# Altium footprint library Mirror_Footprints.PcbLib: 29 footprints (part 3 of 3)
Each footprint in its own frame and in the unit in brackets; x right, y up, seen from the top. Pads: shape width x height; smd on the part's side, far side on the other; paste and mask are expansions set on the pad; w line width, h text height; cw(c..) or ccw(c..) is an arc to the next point about the centre after c.
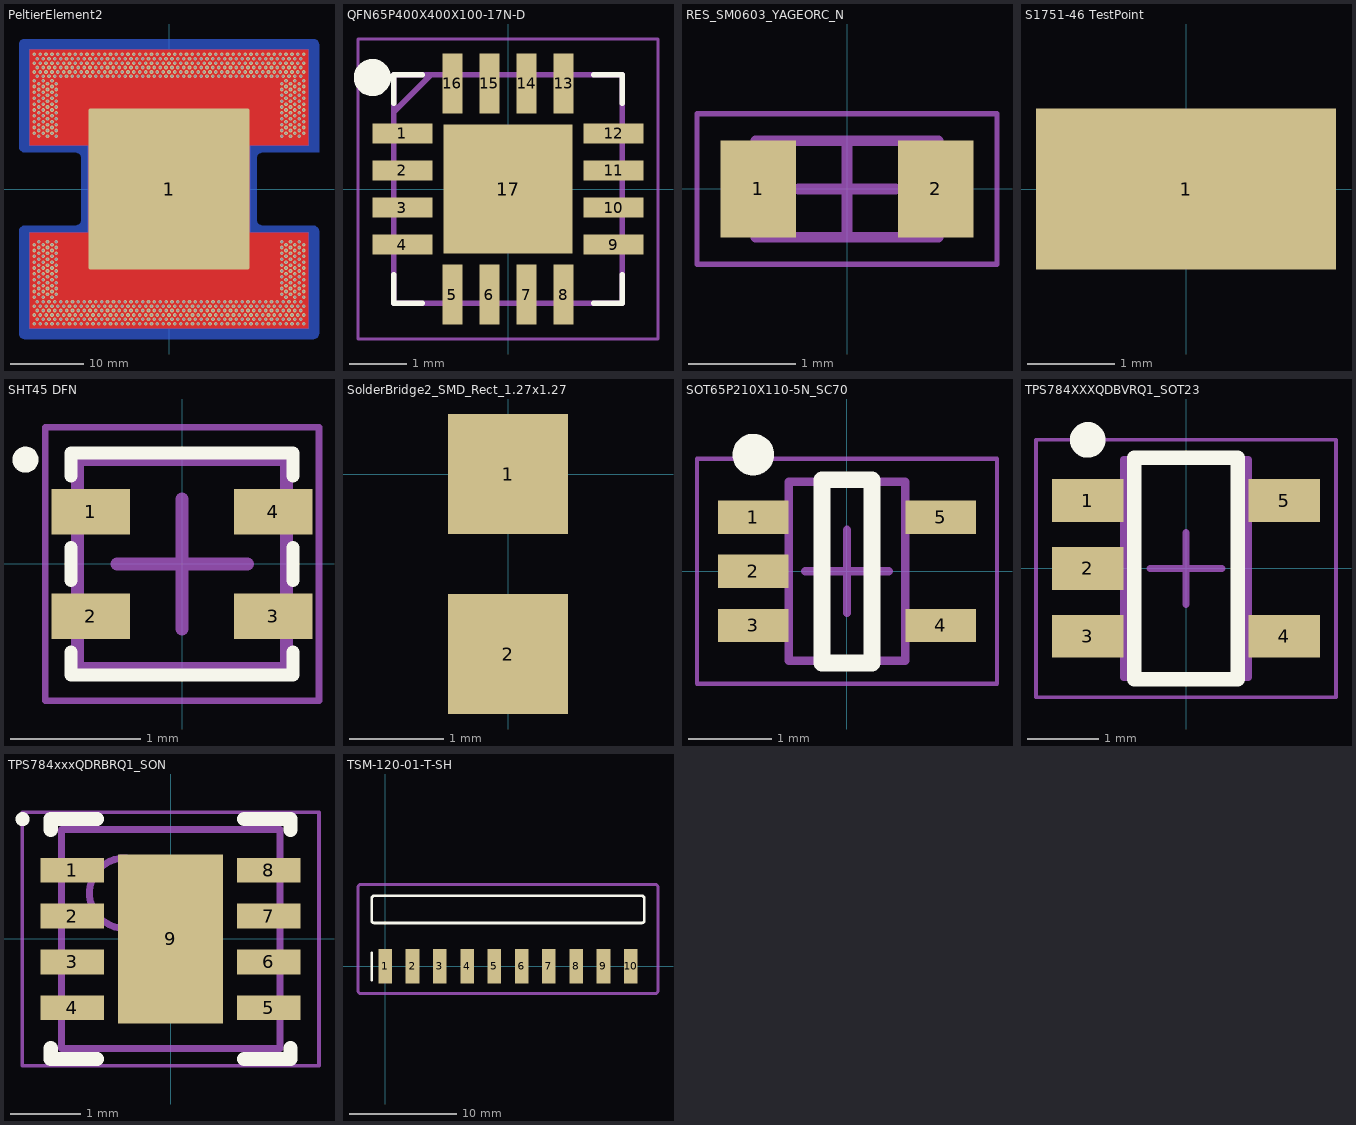
[diagram p2: the footprints below, top view; thin cyan lines are the x and y axes]

## PeltierElement2 [mm]
pads (2):
  rrect2% 22x22 smd paste-2539.97: 1(0,0)
  round 0.025 smd far side paste-2539.97: 1(0,0)
via -18.4,18.4 diameter 0.5 hole 0.3
via -17.6,18.4 diameter 0.5 hole 0.3
via -18,17.8 diameter 0.5 hole 0.3
via -16.8,18.4 diameter 0.5 hole 0.3
via -17.2,17.8 diameter 0.5 hole 0.3
via -16.4,17.8 diameter 0.5 hole 0.3
via -16,18.4 diameter 0.5 hole 0.3
via -15.2,18.4 diameter 0.5 hole 0.3
via -15.6,17.8 diameter 0.5 hole 0.3
via -14.4,18.4 diameter 0.5 hole 0.3
via -14.8,17.8 diameter 0.5 hole 0.3
via -14,17.8 diameter 0.5 hole 0.3
via -13.6,18.4 diameter 0.5 hole 0.3
via -12.8,18.4 diameter 0.5 hole 0.3
via -13.2,17.8 diameter 0.5 hole 0.3
via -12,18.4 diameter 0.5 hole 0.3
via -12.4,17.8 diameter 0.5 hole 0.3
via -11.6,17.8 diameter 0.5 hole 0.3
via -11.2,18.4 diameter 0.5 hole 0.3
via -10.4,18.4 diameter 0.5 hole 0.3
via -10.8,17.8 diameter 0.5 hole 0.3
via -9.6,18.4 diameter 0.5 hole 0.3
via -10,17.8 diameter 0.5 hole 0.3
via -9.2,17.8 diameter 0.5 hole 0.3
via -8.8,18.4 diameter 0.5 hole 0.3
via -8,18.4 diameter 0.5 hole 0.3
via -8.4,17.8 diameter 0.5 hole 0.3
via -7.2,18.4 diameter 0.5 hole 0.3
via -7.6,17.8 diameter 0.5 hole 0.3
via -6.8,17.8 diameter 0.5 hole 0.3
via -6.4,18.4 diameter 0.5 hole 0.3
via -5.6,18.4 diameter 0.5 hole 0.3
via -6,17.8 diameter 0.5 hole 0.3
via -4.8,18.4 diameter 0.5 hole 0.3
via -5.2,17.8 diameter 0.5 hole 0.3
via -4.4,17.8 diameter 0.5 hole 0.3
via -4,18.4 diameter 0.5 hole 0.3
via -3.2,18.4 diameter 0.5 hole 0.3
via -3.6,17.8 diameter 0.5 hole 0.3
via -2.4,18.4 diameter 0.5 hole 0.3
via -2.8,17.8 diameter 0.5 hole 0.3
via -2,17.8 diameter 0.5 hole 0.3
via -1.6,18.4 diameter 0.5 hole 0.3
via -0.8,18.4 diameter 0.5 hole 0.3
via -1.2,17.8 diameter 0.5 hole 0.3
via 0,18.4 diameter 0.5 hole 0.3
via -0.4,17.8 diameter 0.5 hole 0.3
via 0.4,17.8 diameter 0.5 hole 0.3
via 0.8,18.4 diameter 0.5 hole 0.3
via 1.6,18.4 diameter 0.5 hole 0.3
via 1.2,17.8 diameter 0.5 hole 0.3
via 2.4,18.4 diameter 0.5 hole 0.3
via 2,17.8 diameter 0.5 hole 0.3
via 2.8,17.8 diameter 0.5 hole 0.3
via 3.2,18.4 diameter 0.5 hole 0.3
via 4,18.4 diameter 0.5 hole 0.3
via 3.6,17.8 diameter 0.5 hole 0.3
via 4.8,18.4 diameter 0.5 hole 0.3
via 4.4,17.8 diameter 0.5 hole 0.3
via 5.2,17.8 diameter 0.5 hole 0.3
via 5.6,18.4 diameter 0.5 hole 0.3
via 6.4,18.4 diameter 0.5 hole 0.3
via 6,17.8 diameter 0.5 hole 0.3
via 7.2,18.4 diameter 0.5 hole 0.3
via 6.8,17.8 diameter 0.5 hole 0.3
via 7.6,17.8 diameter 0.5 hole 0.3
via 8,18.4 diameter 0.5 hole 0.3
via 8.8,18.4 diameter 0.5 hole 0.3
via 8.4,17.8 diameter 0.5 hole 0.3
via 9.6,18.4 diameter 0.5 hole 0.3
via 9.2,17.8 diameter 0.5 hole 0.3
via 10,17.8 diameter 0.5 hole 0.3
via 10.4,18.4 diameter 0.5 hole 0.3
via 11.2,18.4 diameter 0.5 hole 0.3
via 10.8,17.8 diameter 0.5 hole 0.3
via 12,18.4 diameter 0.5 hole 0.3
via 11.6,17.8 diameter 0.5 hole 0.3
via 12.4,17.8 diameter 0.5 hole 0.3
via 12.8,18.4 diameter 0.5 hole 0.3
via 13.6,18.4 diameter 0.5 hole 0.3
via 13.2,17.8 diameter 0.5 hole 0.3
via 14.4,18.4 diameter 0.5 hole 0.3
via 14,17.8 diameter 0.5 hole 0.3
via 14.8,17.8 diameter 0.5 hole 0.3
via 15.2,18.4 diameter 0.5 hole 0.3
via 16,18.4 diameter 0.5 hole 0.3
via 15.6,17.8 diameter 0.5 hole 0.3
via 16.8,18.4 diameter 0.5 hole 0.3
via 16.4,17.8 diameter 0.5 hole 0.3
via 17.2,17.8 diameter 0.5 hole 0.3
via 17.6,18.4 diameter 0.5 hole 0.3
via 18.4,18.4 diameter 0.5 hole 0.3
via 18,17.8 diameter 0.5 hole 0.3
via -18.4,17.2 diameter 0.5 hole 0.3
via -17.6,17.2 diameter 0.5 hole 0.3
via -18,16.6 diameter 0.5 hole 0.3
via -16.8,17.2 diameter 0.5 hole 0.3
via -17.2,16.6 diameter 0.5 hole 0.3
via -16.4,16.6 diameter 0.5 hole 0.3
via -16,17.2 diameter 0.5 hole 0.3
via -15.2,17.2 diameter 0.5 hole 0.3
via -15.6,16.6 diameter 0.5 hole 0.3
via -14.4,17.2 diameter 0.5 hole 0.3
via -14.8,16.6 diameter 0.5 hole 0.3
via -14,16.6 diameter 0.5 hole 0.3
via -13.6,17.2 diameter 0.5 hole 0.3
via -12.8,17.2 diameter 0.5 hole 0.3
via -13.2,16.6 diameter 0.5 hole 0.3
via -12,17.2 diameter 0.5 hole 0.3
via -12.4,16.6 diameter 0.5 hole 0.3
via -11.6,16.6 diameter 0.5 hole 0.3
via -11.2,17.2 diameter 0.5 hole 0.3
via -10.4,17.2 diameter 0.5 hole 0.3
via -10.8,16.6 diameter 0.5 hole 0.3
via -9.6,17.2 diameter 0.5 hole 0.3
via -10,16.6 diameter 0.5 hole 0.3
via -9.2,16.6 diameter 0.5 hole 0.3
via -8.8,17.2 diameter 0.5 hole 0.3
via -8,17.2 diameter 0.5 hole 0.3
via -8.4,16.6 diameter 0.5 hole 0.3
via -7.2,17.2 diameter 0.5 hole 0.3
via -7.6,16.6 diameter 0.5 hole 0.3
via -6.8,16.6 diameter 0.5 hole 0.3
via -6.4,17.2 diameter 0.5 hole 0.3
via -5.6,17.2 diameter 0.5 hole 0.3
via -6,16.6 diameter 0.5 hole 0.3
via -4.8,17.2 diameter 0.5 hole 0.3
via -5.2,16.6 diameter 0.5 hole 0.3
via -4.4,16.6 diameter 0.5 hole 0.3
via -4,17.2 diameter 0.5 hole 0.3
via -3.2,17.2 diameter 0.5 hole 0.3
via -3.6,16.6 diameter 0.5 hole 0.3
via -2.4,17.2 diameter 0.5 hole 0.3
via -2.8,16.6 diameter 0.5 hole 0.3
via -2,16.6 diameter 0.5 hole 0.3
via -1.6,17.2 diameter 0.5 hole 0.3
via -0.8,17.2 diameter 0.5 hole 0.3
via -1.2,16.6 diameter 0.5 hole 0.3
via 0,17.2 diameter 0.5 hole 0.3
via -0.4,16.6 diameter 0.5 hole 0.3
via 0.4,16.6 diameter 0.5 hole 0.3
via 0.8,17.2 diameter 0.5 hole 0.3
via 1.6,17.2 diameter 0.5 hole 0.3
via 1.2,16.6 diameter 0.5 hole 0.3
via 2.4,17.2 diameter 0.5 hole 0.3
via 2,16.6 diameter 0.5 hole 0.3
via 2.8,16.6 diameter 0.5 hole 0.3
via 3.2,17.2 diameter 0.5 hole 0.3
via 4,17.2 diameter 0.5 hole 0.3
via 3.6,16.6 diameter 0.5 hole 0.3
via 4.8,17.2 diameter 0.5 hole 0.3
via 4.4,16.6 diameter 0.5 hole 0.3
via 5.2,16.6 diameter 0.5 hole 0.3
via 5.6,17.2 diameter 0.5 hole 0.3
via 6.4,17.2 diameter 0.5 hole 0.3
via 6,16.6 diameter 0.5 hole 0.3
via 7.2,17.2 diameter 0.5 hole 0.3
via 6.8,16.6 diameter 0.5 hole 0.3
via 7.6,16.6 diameter 0.5 hole 0.3
via 8,17.2 diameter 0.5 hole 0.3
via 8.8,17.2 diameter 0.5 hole 0.3
via 8.4,16.6 diameter 0.5 hole 0.3
via 9.6,17.2 diameter 0.5 hole 0.3
via 9.2,16.6 diameter 0.5 hole 0.3
via 10,16.6 diameter 0.5 hole 0.3
via 10.4,17.2 diameter 0.5 hole 0.3
via 11.2,17.2 diameter 0.5 hole 0.3
via 10.8,16.6 diameter 0.5 hole 0.3
via 12,17.2 diameter 0.5 hole 0.3
via 11.6,16.6 diameter 0.5 hole 0.3
via 12.4,16.6 diameter 0.5 hole 0.3
via 12.8,17.2 diameter 0.5 hole 0.3
via 13.6,17.2 diameter 0.5 hole 0.3
via 13.2,16.6 diameter 0.5 hole 0.3
via 14.4,17.2 diameter 0.5 hole 0.3
via 14,16.6 diameter 0.5 hole 0.3
via 14.8,16.6 diameter 0.5 hole 0.3
via 15.2,17.2 diameter 0.5 hole 0.3
via 16,17.2 diameter 0.5 hole 0.3
via 15.6,16.6 diameter 0.5 hole 0.3
via 16.8,17.2 diameter 0.5 hole 0.3
via 16.4,16.6 diameter 0.5 hole 0.3
via 17.2,16.6 diameter 0.5 hole 0.3
via 17.6,17.2 diameter 0.5 hole 0.3
via 18.4,17.2 diameter 0.5 hole 0.3
via 18,16.6 diameter 0.5 hole 0.3
via -18.4,16 diameter 0.5 hole 0.3
via -17.6,16 diameter 0.5 hole 0.3
via -18,15.4 diameter 0.5 hole 0.3
via -16.8,16 diameter 0.5 hole 0.3
via -17.2,15.4 diameter 0.5 hole 0.3
via -16.4,15.4 diameter 0.5 hole 0.3
via -16,16 diameter 0.5 hole 0.3
via -15.2,16 diameter 0.5 hole 0.3
via -15.6,15.4 diameter 0.5 hole 0.3
via -14.4,16 diameter 0.5 hole 0.3
via -14.8,15.4 diameter 0.5 hole 0.3
via -14,15.4 diameter 0.5 hole 0.3
via -13.6,16 diameter 0.5 hole 0.3
via -12.8,16 diameter 0.5 hole 0.3
via -13.2,15.4 diameter 0.5 hole 0.3
via -12,16 diameter 0.5 hole 0.3
via -12.4,15.4 diameter 0.5 hole 0.3
via -11.6,15.4 diameter 0.5 hole 0.3
via -11.2,16 diameter 0.5 hole 0.3
via -10.4,16 diameter 0.5 hole 0.3
via -10.8,15.4 diameter 0.5 hole 0.3
via -9.6,16 diameter 0.5 hole 0.3
via -10,15.4 diameter 0.5 hole 0.3
via -9.2,15.4 diameter 0.5 hole 0.3
via -8.8,16 diameter 0.5 hole 0.3
via -8,16 diameter 0.5 hole 0.3
via -8.4,15.4 diameter 0.5 hole 0.3
via -7.2,16 diameter 0.5 hole 0.3
via -7.6,15.4 diameter 0.5 hole 0.3
via -6.8,15.4 diameter 0.5 hole 0.3
via -6.4,16 diameter 0.5 hole 0.3
via -5.6,16 diameter 0.5 hole 0.3
via -6,15.4 diameter 0.5 hole 0.3
via -4.8,16 diameter 0.5 hole 0.3
via -5.2,15.4 diameter 0.5 hole 0.3
via -4.4,15.4 diameter 0.5 hole 0.3
via -4,16 diameter 0.5 hole 0.3
via -3.2,16 diameter 0.5 hole 0.3
via -3.6,15.4 diameter 0.5 hole 0.3
via -2.4,16 diameter 0.5 hole 0.3
via -2.8,15.4 diameter 0.5 hole 0.3
via -2,15.4 diameter 0.5 hole 0.3
via -1.6,16 diameter 0.5 hole 0.3
via -0.8,16 diameter 0.5 hole 0.3
via -1.2,15.4 diameter 0.5 hole 0.3
via 0,16 diameter 0.5 hole 0.3
via -0.4,15.4 diameter 0.5 hole 0.3
via 0.4,15.4 diameter 0.5 hole 0.3
via 0.8,16 diameter 0.5 hole 0.3
via 1.6,16 diameter 0.5 hole 0.3
via 1.2,15.4 diameter 0.5 hole 0.3
via 2.4,16 diameter 0.5 hole 0.3
via 2,15.4 diameter 0.5 hole 0.3
via 2.8,15.4 diameter 0.5 hole 0.3
via 3.2,16 diameter 0.5 hole 0.3
via 4,16 diameter 0.5 hole 0.3
via 3.6,15.4 diameter 0.5 hole 0.3
via 4.8,16 diameter 0.5 hole 0.3
via 4.4,15.4 diameter 0.5 hole 0.3
via 5.2,15.4 diameter 0.5 hole 0.3
via 5.6,16 diameter 0.5 hole 0.3
via 6.4,16 diameter 0.5 hole 0.3
via 6,15.4 diameter 0.5 hole 0.3
via 7.2,16 diameter 0.5 hole 0.3
via 6.8,15.4 diameter 0.5 hole 0.3
via 7.6,15.4 diameter 0.5 hole 0.3
via 8,16 diameter 0.5 hole 0.3
via 8.8,16 diameter 0.5 hole 0.3
via 8.4,15.4 diameter 0.5 hole 0.3
via 9.6,16 diameter 0.5 hole 0.3
via 9.2,15.4 diameter 0.5 hole 0.3
via 10,15.4 diameter 0.5 hole 0.3
via 10.4,16 diameter 0.5 hole 0.3
via 11.2,16 diameter 0.5 hole 0.3
via 10.8,15.4 diameter 0.5 hole 0.3
via 12,16 diameter 0.5 hole 0.3
via 11.6,15.4 diameter 0.5 hole 0.3
via 12.4,15.4 diameter 0.5 hole 0.3
via 12.8,16 diameter 0.5 hole 0.3
via 13.6,16 diameter 0.5 hole 0.3
via 13.2,15.4 diameter 0.5 hole 0.3
via 14.4,16 diameter 0.5 hole 0.3
via 14,15.4 diameter 0.5 hole 0.3
via 14.8,15.4 diameter 0.5 hole 0.3
via 15.2,16 diameter 0.5 hole 0.3
via 16,16 diameter 0.5 hole 0.3
via 15.6,15.4 diameter 0.5 hole 0.3
via 16.8,16 diameter 0.5 hole 0.3
via 16.4,15.4 diameter 0.5 hole 0.3
via 17.2,15.4 diameter 0.5 hole 0.3
via 17.6,16 diameter 0.5 hole 0.3
via 18.4,16 diameter 0.5 hole 0.3
via 18,15.4 diameter 0.5 hole 0.3
via 18.406,-18.412 diameter 0.5 hole 0.3
via 17.606,-18.412 diameter 0.5 hole 0.3
via 18.006,-17.812 diameter 0.5 hole 0.3
via 16.806,-18.412 diameter 0.5 hole 0.3
via 17.206,-17.812 diameter 0.5 hole 0.3
via 16.406,-17.812 diameter 0.5 hole 0.3
via 16.006,-18.412 diameter 0.5 hole 0.3
via 15.206,-18.412 diameter 0.5 hole 0.3
via 15.606,-17.812 diameter 0.5 hole 0.3
via 14.406,-18.412 diameter 0.5 hole 0.3
via 14.806,-17.812 diameter 0.5 hole 0.3
via 14.006,-17.812 diameter 0.5 hole 0.3
via 13.606,-18.412 diameter 0.5 hole 0.3
via 12.806,-18.412 diameter 0.5 hole 0.3
via 13.206,-17.812 diameter 0.5 hole 0.3
via 12.006,-18.412 diameter 0.5 hole 0.3
via 12.406,-17.812 diameter 0.5 hole 0.3
via 11.606,-17.812 diameter 0.5 hole 0.3
via 11.206,-18.412 diameter 0.5 hole 0.3
via 10.406,-18.412 diameter 0.5 hole 0.3
via 10.806,-17.812 diameter 0.5 hole 0.3
via 9.606,-18.412 diameter 0.5 hole 0.3
via 10.006,-17.812 diameter 0.5 hole 0.3
via 9.206,-17.812 diameter 0.5 hole 0.3
via 8.806,-18.412 diameter 0.5 hole 0.3
via 8.006,-18.412 diameter 0.5 hole 0.3
via 8.406,-17.812 diameter 0.5 hole 0.3
via 7.206,-18.412 diameter 0.5 hole 0.3
via 7.606,-17.812 diameter 0.5 hole 0.3
via 6.806,-17.812 diameter 0.5 hole 0.3
via 6.406,-18.412 diameter 0.5 hole 0.3
via 5.606,-18.412 diameter 0.5 hole 0.3
via 6.006,-17.812 diameter 0.5 hole 0.3
via 4.806,-18.412 diameter 0.5 hole 0.3
via 5.206,-17.812 diameter 0.5 hole 0.3
via 4.406,-17.812 diameter 0.5 hole 0.3
via 4.006,-18.412 diameter 0.5 hole 0.3
via 3.206,-18.412 diameter 0.5 hole 0.3
via 3.606,-17.812 diameter 0.5 hole 0.3
via 2.406,-18.412 diameter 0.5 hole 0.3
via 2.806,-17.812 diameter 0.5 hole 0.3
via 2.006,-17.812 diameter 0.5 hole 0.3
via 1.606,-18.412 diameter 0.5 hole 0.3
via 0.806,-18.412 diameter 0.5 hole 0.3
via 1.206,-17.812 diameter 0.5 hole 0.3
via 0.006,-18.412 diameter 0.5 hole 0.3
via 0.406,-17.812 diameter 0.5 hole 0.3
via -0.394,-17.812 diameter 0.5 hole 0.3
via -0.794,-18.412 diameter 0.5 hole 0.3
via -1.594,-18.412 diameter 0.5 hole 0.3
via -1.194,-17.812 diameter 0.5 hole 0.3
via -2.394,-18.412 diameter 0.5 hole 0.3
via -1.994,-17.812 diameter 0.5 hole 0.3
via -2.794,-17.812 diameter 0.5 hole 0.3
via -3.194,-18.412 diameter 0.5 hole 0.3
via -3.994,-18.412 diameter 0.5 hole 0.3
via -3.594,-17.812 diameter 0.5 hole 0.3
via -4.794,-18.412 diameter 0.5 hole 0.3
via -4.394,-17.812 diameter 0.5 hole 0.3
via -5.194,-17.812 diameter 0.5 hole 0.3
via -5.594,-18.412 diameter 0.5 hole 0.3
via -6.394,-18.412 diameter 0.5 hole 0.3
via -5.994,-17.812 diameter 0.5 hole 0.3
via -7.194,-18.412 diameter 0.5 hole 0.3
via -6.794,-17.812 diameter 0.5 hole 0.3
via -7.594,-17.812 diameter 0.5 hole 0.3
via -7.994,-18.412 diameter 0.5 hole 0.3
via -8.794,-18.412 diameter 0.5 hole 0.3
via -8.394,-17.812 diameter 0.5 hole 0.3
via -9.594,-18.412 diameter 0.5 hole 0.3
via -9.194,-17.812 diameter 0.5 hole 0.3
via -9.994,-17.812 diameter 0.5 hole 0.3
via -10.394,-18.412 diameter 0.5 hole 0.3
via -11.194,-18.412 diameter 0.5 hole 0.3
via -10.794,-17.812 diameter 0.5 hole 0.3
via -11.994,-18.412 diameter 0.5 hole 0.3
via -11.594,-17.812 diameter 0.5 hole 0.3
via -12.394,-17.812 diameter 0.5 hole 0.3
via -12.794,-18.412 diameter 0.5 hole 0.3
via -13.594,-18.412 diameter 0.5 hole 0.3
via -13.194,-17.812 diameter 0.5 hole 0.3
via -14.394,-18.412 diameter 0.5 hole 0.3
via -13.994,-17.812 diameter 0.5 hole 0.3
via -14.794,-17.812 diameter 0.5 hole 0.3
via -15.194,-18.412 diameter 0.5 hole 0.3
via -15.994,-18.412 diameter 0.5 hole 0.3
via -15.594,-17.812 diameter 0.5 hole 0.3
via -16.794,-18.412 diameter 0.5 hole 0.3
via -16.394,-17.812 diameter 0.5 hole 0.3
via -17.194,-17.812 diameter 0.5 hole 0.3
via -17.594,-18.412 diameter 0.5 hole 0.3
via -18.394,-18.412 diameter 0.5 hole 0.3
via -17.994,-17.812 diameter 0.5 hole 0.3
via 18.406,-17.212 diameter 0.5 hole 0.3
via 17.606,-17.212 diameter 0.5 hole 0.3
via 18.006,-16.612 diameter 0.5 hole 0.3
via 16.806,-17.212 diameter 0.5 hole 0.3
via 17.206,-16.612 diameter 0.5 hole 0.3
via 16.406,-16.612 diameter 0.5 hole 0.3
via 16.006,-17.212 diameter 0.5 hole 0.3
via 15.206,-17.212 diameter 0.5 hole 0.3
via 15.606,-16.612 diameter 0.5 hole 0.3
via 14.406,-17.212 diameter 0.5 hole 0.3
via 14.806,-16.612 diameter 0.5 hole 0.3
via 14.006,-16.612 diameter 0.5 hole 0.3
via 13.606,-17.212 diameter 0.5 hole 0.3
via 12.806,-17.212 diameter 0.5 hole 0.3
via 13.206,-16.612 diameter 0.5 hole 0.3
via 12.006,-17.212 diameter 0.5 hole 0.3
via 12.406,-16.612 diameter 0.5 hole 0.3
via 11.606,-16.612 diameter 0.5 hole 0.3
via 11.206,-17.212 diameter 0.5 hole 0.3
via 10.406,-17.212 diameter 0.5 hole 0.3
via 10.806,-16.612 diameter 0.5 hole 0.3
via 9.606,-17.212 diameter 0.5 hole 0.3
via 10.006,-16.612 diameter 0.5 hole 0.3
via 9.206,-16.612 diameter 0.5 hole 0.3
via 8.806,-17.212 diameter 0.5 hole 0.3
via 8.006,-17.212 diameter 0.5 hole 0.3
via 8.406,-16.612 diameter 0.5 hole 0.3
via 7.206,-17.212 diameter 0.5 hole 0.3
via 7.606,-16.612 diameter 0.5 hole 0.3
via 6.806,-16.612 diameter 0.5 hole 0.3
via 6.406,-17.212 diameter 0.5 hole 0.3
via 5.606,-17.212 diameter 0.5 hole 0.3
via 6.006,-16.612 diameter 0.5 hole 0.3
via 4.806,-17.212 diameter 0.5 hole 0.3
via 5.206,-16.612 diameter 0.5 hole 0.3
via 4.406,-16.612 diameter 0.5 hole 0.3
via 4.006,-17.212 diameter 0.5 hole 0.3
via 3.206,-17.212 diameter 0.5 hole 0.3
via 3.606,-16.612 diameter 0.5 hole 0.3
via 2.406,-17.212 diameter 0.5 hole 0.3
via 2.806,-16.612 diameter 0.5 hole 0.3
via 2.006,-16.612 diameter 0.5 hole 0.3
via 1.606,-17.212 diameter 0.5 hole 0.3
via 0.806,-17.212 diameter 0.5 hole 0.3
via 1.206,-16.612 diameter 0.5 hole 0.3
via 0.006,-17.212 diameter 0.5 hole 0.3
via 0.406,-16.612 diameter 0.5 hole 0.3
via -0.394,-16.612 diameter 0.5 hole 0.3
via -0.794,-17.212 diameter 0.5 hole 0.3
via -1.594,-17.212 diameter 0.5 hole 0.3
via -1.194,-16.612 diameter 0.5 hole 0.3
via -2.394,-17.212 diameter 0.5 hole 0.3
via -1.994,-16.612 diameter 0.5 hole 0.3
via -2.794,-16.612 diameter 0.5 hole 0.3
via -3.194,-17.212 diameter 0.5 hole 0.3
via -3.994,-17.212 diameter 0.5 hole 0.3
via -3.594,-16.612 diameter 0.5 hole 0.3
via -4.794,-17.212 diameter 0.5 hole 0.3
via -4.394,-16.612 diameter 0.5 hole 0.3
via -5.194,-16.612 diameter 0.5 hole 0.3
via -5.594,-17.212 diameter 0.5 hole 0.3
via -6.394,-17.212 diameter 0.5 hole 0.3
via -5.994,-16.612 diameter 0.5 hole 0.3
via -7.194,-17.212 diameter 0.5 hole 0.3
via -6.794,-16.612 diameter 0.5 hole 0.3
via -7.594,-16.612 diameter 0.5 hole 0.3
via -7.994,-17.212 diameter 0.5 hole 0.3
via -8.794,-17.212 diameter 0.5 hole 0.3
via -8.394,-16.612 diameter 0.5 hole 0.3
via -9.594,-17.212 diameter 0.5 hole 0.3
via -9.194,-16.612 diameter 0.5 hole 0.3
via -9.994,-16.612 diameter 0.5 hole 0.3
via -10.394,-17.212 diameter 0.5 hole 0.3
via -11.194,-17.212 diameter 0.5 hole 0.3
via -10.794,-16.612 diameter 0.5 hole 0.3
via -11.994,-17.212 diameter 0.5 hole 0.3
via -11.594,-16.612 diameter 0.5 hole 0.3
via -12.394,-16.612 diameter 0.5 hole 0.3
via -12.794,-17.212 diameter 0.5 hole 0.3
via -13.594,-17.212 diameter 0.5 hole 0.3
via -13.194,-16.612 diameter 0.5 hole 0.3
via -14.394,-17.212 diameter 0.5 hole 0.3
via -13.994,-16.612 diameter 0.5 hole 0.3
via -14.794,-16.612 diameter 0.5 hole 0.3
via -15.194,-17.212 diameter 0.5 hole 0.3
via -15.994,-17.212 diameter 0.5 hole 0.3
via -15.594,-16.612 diameter 0.5 hole 0.3
via -16.794,-17.212 diameter 0.5 hole 0.3
via -16.394,-16.612 diameter 0.5 hole 0.3
via -17.194,-16.612 diameter 0.5 hole 0.3
via -17.594,-17.212 diameter 0.5 hole 0.3
via -18.394,-17.212 diameter 0.5 hole 0.3
via -17.994,-16.612 diameter 0.5 hole 0.3
via 18.406,-16.012 diameter 0.5 hole 0.3
via 17.606,-16.012 diameter 0.5 hole 0.3
via 18.006,-15.412 diameter 0.5 hole 0.3
via 16.806,-16.012 diameter 0.5 hole 0.3
via 17.206,-15.412 diameter 0.5 hole 0.3
via 16.406,-15.412 diameter 0.5 hole 0.3
via 16.006,-16.012 diameter 0.5 hole 0.3
via 15.206,-16.012 diameter 0.5 hole 0.3
via 15.606,-15.412 diameter 0.5 hole 0.3
via 14.406,-16.012 diameter 0.5 hole 0.3
via 14.806,-15.412 diameter 0.5 hole 0.3
via 14.006,-15.412 diameter 0.5 hole 0.3
via 13.606,-16.012 diameter 0.5 hole 0.3
via 12.806,-16.012 diameter 0.5 hole 0.3
via 13.206,-15.412 diameter 0.5 hole 0.3
via 12.006,-16.012 diameter 0.5 hole 0.3
via 12.406,-15.412 diameter 0.5 hole 0.3
via 11.606,-15.412 diameter 0.5 hole 0.3
via 11.206,-16.012 diameter 0.5 hole 0.3
via 10.406,-16.012 diameter 0.5 hole 0.3
via 10.806,-15.412 diameter 0.5 hole 0.3
via 9.606,-16.012 diameter 0.5 hole 0.3
via 10.006,-15.412 diameter 0.5 hole 0.3
via 9.206,-15.412 diameter 0.5 hole 0.3
via 8.806,-16.012 diameter 0.5 hole 0.3
via 8.006,-16.012 diameter 0.5 hole 0.3
via 8.406,-15.412 diameter 0.5 hole 0.3
via 7.206,-16.012 diameter 0.5 hole 0.3
via 7.606,-15.412 diameter 0.5 hole 0.3
via 6.806,-15.412 diameter 0.5 hole 0.3
via 6.406,-16.012 diameter 0.5 hole 0.3
via 5.606,-16.012 diameter 0.5 hole 0.3
via 6.006,-15.412 diameter 0.5 hole 0.3
via 4.806,-16.012 diameter 0.5 hole 0.3
via 5.206,-15.412 diameter 0.5 hole 0.3
via 4.406,-15.412 diameter 0.5 hole 0.3
via 4.006,-16.012 diameter 0.5 hole 0.3
via 3.206,-16.012 diameter 0.5 hole 0.3
via 3.606,-15.412 diameter 0.5 hole 0.3
via 2.406,-16.012 diameter 0.5 hole 0.3
via 2.806,-15.412 diameter 0.5 hole 0.3
via 2.006,-15.412 diameter 0.5 hole 0.3
via 1.606,-16.012 diameter 0.5 hole 0.3
via 0.806,-16.012 diameter 0.5 hole 0.3
via 1.206,-15.412 diameter 0.5 hole 0.3
via 0.006,-16.012 diameter 0.5 hole 0.3
via 0.406,-15.412 diameter 0.5 hole 0.3
via -0.394,-15.412 diameter 0.5 hole 0.3
via -0.794,-16.012 diameter 0.5 hole 0.3
via -1.594,-16.012 diameter 0.5 hole 0.3
via -1.194,-15.412 diameter 0.5 hole 0.3
via -2.394,-16.012 diameter 0.5 hole 0.3
via -1.994,-15.412 diameter 0.5 hole 0.3
via -2.794,-15.412 diameter 0.5 hole 0.3
via -3.194,-16.012 diameter 0.5 hole 0.3
via -3.994,-16.012 diameter 0.5 hole 0.3
via -3.594,-15.412 diameter 0.5 hole 0.3
via -4.794,-16.012 diameter 0.5 hole 0.3
via -4.394,-15.412 diameter 0.5 hole 0.3
via -5.194,-15.412 diameter 0.5 hole 0.3
via -5.594,-16.012 diameter 0.5 hole 0.3
via -6.394,-16.012 diameter 0.5 hole 0.3
via -5.994,-15.412 diameter 0.5 hole 0.3
via -7.194,-16.012 diameter 0.5 hole 0.3
via -6.794,-15.412 diameter 0.5 hole 0.3
via -7.594,-15.412 diameter 0.5 hole 0.3
via -7.994,-16.012 diameter 0.5 hole 0.3
via -8.794,-16.012 diameter 0.5 hole 0.3
via -8.394,-15.412 diameter 0.5 hole 0.3
via -9.594,-16.012 diameter 0.5 hole 0.3
via -9.194,-15.412 diameter 0.5 hole 0.3
via -9.994,-15.412 diameter 0.5 hole 0.3
via -10.394,-16.012 diameter 0.5 hole 0.3
via -11.194,-16.012 diameter 0.5 hole 0.3
via -10.794,-15.412 diameter 0.5 hole 0.3
via -11.994,-16.012 diameter 0.5 hole 0.3
via -11.594,-15.412 diameter 0.5 hole 0.3
via -12.394,-15.412 diameter 0.5 hole 0.3
via -12.794,-16.012 diameter 0.5 hole 0.3
via -13.594,-16.012 diameter 0.5 hole 0.3
via -13.194,-15.412 diameter 0.5 hole 0.3
via -14.394,-16.012 diameter 0.5 hole 0.3
via -13.994,-15.412 diameter 0.5 hole 0.3
via -14.794,-15.412 diameter 0.5 hole 0.3
via -15.194,-16.012 diameter 0.5 hole 0.3
via -15.994,-16.012 diameter 0.5 hole 0.3
via -15.594,-15.412 diameter 0.5 hole 0.3
via -16.794,-16.012 diameter 0.5 hole 0.3
via -16.394,-15.412 diameter 0.5 hole 0.3
via -17.194,-15.412 diameter 0.5 hole 0.3
via -17.594,-16.012 diameter 0.5 hole 0.3
via -18.394,-16.012 diameter 0.5 hole 0.3
via -17.994,-15.412 diameter 0.5 hole 0.3
via -15.4,14.4 diameter 0.5 hole 0.3
via -16,14.8 diameter 0.5 hole 0.3
via -16,14 diameter 0.5 hole 0.3
via -15.4,13.6 diameter 0.5 hole 0.3
via -15.4,12.8 diameter 0.5 hole 0.3
via -16,13.2 diameter 0.5 hole 0.3
via -15.4,12 diameter 0.5 hole 0.3
via -16,12.4 diameter 0.5 hole 0.3
via -16,11.6 diameter 0.5 hole 0.3
via -15.4,11.2 diameter 0.5 hole 0.3
via -15.4,10.4 diameter 0.5 hole 0.3
via -16,10.8 diameter 0.5 hole 0.3
via -15.4,9.6 diameter 0.5 hole 0.3
via -16,10 diameter 0.5 hole 0.3
via -16,9.2 diameter 0.5 hole 0.3
via -15.4,8.8 diameter 0.5 hole 0.3
via -15.4,8 diameter 0.5 hole 0.3
via -16,8.4 diameter 0.5 hole 0.3
via -15.4,7.2 diameter 0.5 hole 0.3
via -16,7.6 diameter 0.5 hole 0.3
via -15.4,-7.2 diameter 0.5 hole 0.3
via -16,-7.6 diameter 0.5 hole 0.3
via -15.4,-8 diameter 0.5 hole 0.3
via -15.4,-8.8 diameter 0.5 hole 0.3
via -16,-8.4 diameter 0.5 hole 0.3
via -15.4,-9.6 diameter 0.5 hole 0.3
via -16,-9.2 diameter 0.5 hole 0.3
via -16,-10 diameter 0.5 hole 0.3
via -15.4,-10.4 diameter 0.5 hole 0.3
via -15.4,-11.2 diameter 0.5 hole 0.3
via -16,-10.8 diameter 0.5 hole 0.3
via -15.4,-12 diameter 0.5 hole 0.3
via -16,-11.6 diameter 0.5 hole 0.3
via -16,-12.4 diameter 0.5 hole 0.3
via -15.4,-12.8 diameter 0.5 hole 0.3
via -15.4,-13.6 diameter 0.5 hole 0.3
via -16,-13.2 diameter 0.5 hole 0.3
via -15.4,-14.4 diameter 0.5 hole 0.3
via -16,-14 diameter 0.5 hole 0.3
via -16,-14.8 diameter 0.5 hole 0.3
via -16.6,14.4 diameter 0.5 hole 0.3
via -17.2,14.8 diameter 0.5 hole 0.3
via -17.2,14 diameter 0.5 hole 0.3
via -16.6,13.6 diameter 0.5 hole 0.3
via -16.6,12.8 diameter 0.5 hole 0.3
via -17.2,13.2 diameter 0.5 hole 0.3
via -16.6,12 diameter 0.5 hole 0.3
via -17.2,12.4 diameter 0.5 hole 0.3
via -17.2,11.6 diameter 0.5 hole 0.3
via -16.6,11.2 diameter 0.5 hole 0.3
via -16.6,10.4 diameter 0.5 hole 0.3
via -17.2,10.8 diameter 0.5 hole 0.3
via -16.6,9.6 diameter 0.5 hole 0.3
via -17.2,10 diameter 0.5 hole 0.3
via -17.2,9.2 diameter 0.5 hole 0.3
via -16.6,8.8 diameter 0.5 hole 0.3
via -16.6,8 diameter 0.5 hole 0.3
via -17.2,8.4 diameter 0.5 hole 0.3
via -16.6,7.2 diameter 0.5 hole 0.3
via -17.2,7.6 diameter 0.5 hole 0.3
via -16.6,-7.2 diameter 0.5 hole 0.3
via -17.2,-7.6 diameter 0.5 hole 0.3
via -16.6,-8 diameter 0.5 hole 0.3
via -16.6,-8.8 diameter 0.5 hole 0.3
via -17.2,-8.4 diameter 0.5 hole 0.3
via -16.6,-9.6 diameter 0.5 hole 0.3
via -17.2,-9.2 diameter 0.5 hole 0.3
via -17.2,-10 diameter 0.5 hole 0.3
via -16.6,-10.4 diameter 0.5 hole 0.3
via -16.6,-11.2 diameter 0.5 hole 0.3
via -17.2,-10.8 diameter 0.5 hole 0.3
via -16.6,-12 diameter 0.5 hole 0.3
via -17.2,-11.6 diameter 0.5 hole 0.3
via -17.2,-12.4 diameter 0.5 hole 0.3
via -16.6,-12.8 diameter 0.5 hole 0.3
via -16.6,-13.6 diameter 0.5 hole 0.3
via -17.2,-13.2 diameter 0.5 hole 0.3
via -16.6,-14.4 diameter 0.5 hole 0.3
via -17.2,-14 diameter 0.5 hole 0.3
via -17.2,-14.8 diameter 0.5 hole 0.3
via -17.8,14.4 diameter 0.5 hole 0.3
via -18.4,14.8 diameter 0.5 hole 0.3
via -18.4,14 diameter 0.5 hole 0.3
via -17.8,13.6 diameter 0.5 hole 0.3
via -17.8,12.8 diameter 0.5 hole 0.3
via -18.4,13.2 diameter 0.5 hole 0.3
via -17.8,12 diameter 0.5 hole 0.3
via -18.4,12.4 diameter 0.5 hole 0.3
via -18.4,11.6 diameter 0.5 hole 0.3
via -17.8,11.2 diameter 0.5 hole 0.3
via -17.8,10.4 diameter 0.5 hole 0.3
via -18.4,10.8 diameter 0.5 hole 0.3
via -17.8,9.6 diameter 0.5 hole 0.3
via -18.4,10 diameter 0.5 hole 0.3
via -18.4,9.2 diameter 0.5 hole 0.3
via -17.8,8.8 diameter 0.5 hole 0.3
via -17.8,8 diameter 0.5 hole 0.3
via -18.4,8.4 diameter 0.5 hole 0.3
via -17.8,7.2 diameter 0.5 hole 0.3
via -18.4,7.6 diameter 0.5 hole 0.3
via -17.8,-7.2 diameter 0.5 hole 0.3
via -18.4,-7.6 diameter 0.5 hole 0.3
via -17.8,-8 diameter 0.5 hole 0.3
via -17.8,-8.8 diameter 0.5 hole 0.3
via -18.4,-8.4 diameter 0.5 hole 0.3
via -17.8,-9.6 diameter 0.5 hole 0.3
via -18.4,-9.2 diameter 0.5 hole 0.3
via -18.4,-10 diameter 0.5 hole 0.3
via -17.8,-10.4 diameter 0.5 hole 0.3
via -17.8,-11.2 diameter 0.5 hole 0.3
via -18.4,-10.8 diameter 0.5 hole 0.3
via -17.8,-12 diameter 0.5 hole 0.3
via -18.4,-11.6 diameter 0.5 hole 0.3
via -18.4,-12.4 diameter 0.5 hole 0.3
via -17.8,-12.8 diameter 0.5 hole 0.3
via -17.8,-13.6 diameter 0.5 hole 0.3
via -18.4,-13.2 diameter 0.5 hole 0.3
via -17.8,-14.4 diameter 0.5 hole 0.3
via -18.4,-14 diameter 0.5 hole 0.3
via -18.4,-14.8 diameter 0.5 hole 0.3
via 15.4,-14.4 diameter 0.5 hole 0.3
via 16,-14.8 diameter 0.5 hole 0.3
via 16,-14 diameter 0.5 hole 0.3
via 15.4,-13.6 diameter 0.5 hole 0.3
via 15.4,-12.8 diameter 0.5 hole 0.3
via 16,-13.2 diameter 0.5 hole 0.3
via 15.4,-12 diameter 0.5 hole 0.3
via 16,-12.4 diameter 0.5 hole 0.3
via 16,-11.6 diameter 0.5 hole 0.3
via 15.4,-11.2 diameter 0.5 hole 0.3
via 15.4,-10.4 diameter 0.5 hole 0.3
via 16,-10.8 diameter 0.5 hole 0.3
via 15.4,-9.6 diameter 0.5 hole 0.3
via 16,-10 diameter 0.5 hole 0.3
via 16,-9.2 diameter 0.5 hole 0.3
via 15.4,-8.8 diameter 0.5 hole 0.3
via 15.4,-8 diameter 0.5 hole 0.3
via 16,-8.4 diameter 0.5 hole 0.3
via 15.4,-7.2 diameter 0.5 hole 0.3
via 16,-7.6 diameter 0.5 hole 0.3
via 15.4,7.2 diameter 0.5 hole 0.3
via 16,7.6 diameter 0.5 hole 0.3
via 15.4,8 diameter 0.5 hole 0.3
via 15.4,8.8 diameter 0.5 hole 0.3
via 16,8.4 diameter 0.5 hole 0.3
via 15.4,9.6 diameter 0.5 hole 0.3
via 16,9.2 diameter 0.5 hole 0.3
via 16,10 diameter 0.5 hole 0.3
via 15.4,10.4 diameter 0.5 hole 0.3
via 15.4,11.2 diameter 0.5 hole 0.3
via 16,10.8 diameter 0.5 hole 0.3
via 15.4,12 diameter 0.5 hole 0.3
via 16,11.6 diameter 0.5 hole 0.3
via 16,12.4 diameter 0.5 hole 0.3
via 15.4,12.8 diameter 0.5 hole 0.3
via 15.4,13.6 diameter 0.5 hole 0.3
via 16,13.2 diameter 0.5 hole 0.3
via 15.4,14.4 diameter 0.5 hole 0.3
via 16,14 diameter 0.5 hole 0.3
via 16,14.8 diameter 0.5 hole 0.3
via 16.6,-14.4 diameter 0.5 hole 0.3
via 17.2,-14.8 diameter 0.5 hole 0.3
via 17.2,-14 diameter 0.5 hole 0.3
via 16.6,-13.6 diameter 0.5 hole 0.3
via 16.6,-12.8 diameter 0.5 hole 0.3
via 17.2,-13.2 diameter 0.5 hole 0.3
via 16.6,-12 diameter 0.5 hole 0.3
via 17.2,-12.4 diameter 0.5 hole 0.3
via 17.2,-11.6 diameter 0.5 hole 0.3
via 16.6,-11.2 diameter 0.5 hole 0.3
via 16.6,-10.4 diameter 0.5 hole 0.3
via 17.2,-10.8 diameter 0.5 hole 0.3
via 16.6,-9.6 diameter 0.5 hole 0.3
via 17.2,-10 diameter 0.5 hole 0.3
via 17.2,-9.2 diameter 0.5 hole 0.3
via 16.6,-8.8 diameter 0.5 hole 0.3
via 16.6,-8 diameter 0.5 hole 0.3
via 17.2,-8.4 diameter 0.5 hole 0.3
via 16.6,-7.2 diameter 0.5 hole 0.3
via 17.2,-7.6 diameter 0.5 hole 0.3
via 16.6,7.2 diameter 0.5 hole 0.3
via 17.2,7.6 diameter 0.5 hole 0.3
via 16.6,8 diameter 0.5 hole 0.3
via 16.6,8.8 diameter 0.5 hole 0.3
via 17.2,8.4 diameter 0.5 hole 0.3
via 16.6,9.6 diameter 0.5 hole 0.3
via 17.2,9.2 diameter 0.5 hole 0.3
via 17.2,10 diameter 0.5 hole 0.3
via 16.6,10.4 diameter 0.5 hole 0.3
via 16.6,11.2 diameter 0.5 hole 0.3
via 17.2,10.8 diameter 0.5 hole 0.3
via 16.6,12 diameter 0.5 hole 0.3
via 17.2,11.6 diameter 0.5 hole 0.3
via 17.2,12.4 diameter 0.5 hole 0.3
via 16.6,12.8 diameter 0.5 hole 0.3
via 16.6,13.6 diameter 0.5 hole 0.3
via 17.2,13.2 diameter 0.5 hole 0.3
via 16.6,14.4 diameter 0.5 hole 0.3
via 17.2,14 diameter 0.5 hole 0.3
via 17.2,14.8 diameter 0.5 hole 0.3
via 17.8,-14.4 diameter 0.5 hole 0.3
via 18.4,-14.8 diameter 0.5 hole 0.3
via 18.4,-14 diameter 0.5 hole 0.3
via 17.8,-13.6 diameter 0.5 hole 0.3
via 17.8,-12.8 diameter 0.5 hole 0.3
via 18.4,-13.2 diameter 0.5 hole 0.3
via 17.8,-12 diameter 0.5 hole 0.3
via 18.4,-12.4 diameter 0.5 hole 0.3
via 18.4,-11.6 diameter 0.5 hole 0.3
via 17.8,-11.2 diameter 0.5 hole 0.3
via 17.8,-10.4 diameter 0.5 hole 0.3
via 18.4,-10.8 diameter 0.5 hole 0.3
via 17.8,-9.6 diameter 0.5 hole 0.3
via 18.4,-10 diameter 0.5 hole 0.3
via 18.4,-9.2 diameter 0.5 hole 0.3
via 17.8,-8.8 diameter 0.5 hole 0.3
via 17.8,-8 diameter 0.5 hole 0.3
via 18.4,-8.4 diameter 0.5 hole 0.3
via 17.8,-7.2 diameter 0.5 hole 0.3
via 18.4,-7.6 diameter 0.5 hole 0.3
via 17.8,7.2 diameter 0.5 hole 0.3
via 18.4,7.6 diameter 0.5 hole 0.3
via 17.8,8 diameter 0.5 hole 0.3
via 17.8,8.8 diameter 0.5 hole 0.3
via 18.4,8.4 diameter 0.5 hole 0.3
via 17.8,9.6 diameter 0.5 hole 0.3
via 18.4,9.2 diameter 0.5 hole 0.3
via 18.4,10 diameter 0.5 hole 0.3
via 17.8,10.4 diameter 0.5 hole 0.3
via 17.8,11.2 diameter 0.5 hole 0.3
via 18.4,10.8 diameter 0.5 hole 0.3
via 17.8,12 diameter 0.5 hole 0.3
via 18.4,11.6 diameter 0.5 hole 0.3
via 18.4,12.4 diameter 0.5 hole 0.3
via 17.8,12.8 diameter 0.5 hole 0.3
via 17.8,13.6 diameter 0.5 hole 0.3
via 18.4,13.2 diameter 0.5 hole 0.3
via 17.8,14.4 diameter 0.5 hole 0.3
via 18.4,14 diameter 0.5 hole 0.3
via 18.4,14.8 diameter 0.5 hole 0.3
Top Layer:
  region: -19,19 -19,6 -11,6 -11,-6 -19,-6 -19,-19 19,-19 19,-6 11,-6 11,6 19,6 19,19
Bottom Layer:
  region: 166 vertices and 0 holes, not listed, extent -20.5,-20.5 20.5,20.5
Top Courtyard:
  lines w0.254: -19,-19 -19,-6 -11,-6 -11,6 -19,6 -19,19 19,19 19,6 11,6 11,-6 19,-6 19,-19 -19,-19
3D body: height 0.25, standoff 0, extent -20,20 20,20
3D body: height 8, standoff 0, extent -20,-20 20,20

## QFN65P400X400X100-17N-D [mm]
pads (17):
  rect 1.05x0.35 smd: 1(-1.85,0.975) 2(-1.85,0.325) 3(-1.85,-0.325) 4(-1.85,-0.975) 9(1.85,-0.975) 10(1.85,-0.325) 11(1.85,0.325) 12(1.85,0.975)
  rect 0.35x1.05 smd: 5(-0.975,-1.85) 6(-0.325,-1.85) 7(0.325,-1.85) 8(0.975,-1.85) 13(0.975,1.85) 14(0.325,1.85) 15(-0.325,1.85) 16(-0.975,1.85)
  rect 2.26x2.26 smd: 17(0,0)
Top Overlay:
  circle w0.325: c-2.375,1.95 r0.162
  lines w0.1: -2,-1.5 -2,-2 -1.5,-2 ; -2,1.5 -2,2 -1.5,2 ; 1.5,-2 2,-2 2,-1.5 ; 1.5,2 2,2 2,1.5
Mechanical 15:
  lines w0.1: -2,1.35 -1.35,2 ; -2,-2 -2,2 2,2 2,-2 -2,-2
Mechanical 20:
  lines w0.05: -2.625,-2.625 -2.625,2.625 2.625,2.625 2.625,-2.625 -2.625,-2.625
3D body "PCA9546ARGVR.stp": height 1, standoff 0, extent -1.988,-2.062 2.012,1.938

## RES_SM0603_YAGEORC_N [mm] "Resistor, Yageo RC_L, SM0603, IPC Medium Density"
height 0.55
pads (2):
  rect 0.7x0.9 smd: 1(-0.827,0) 2(0.827,0)
Mechanical 13:
  lines w0.1: -0.85,-0.45 0.85,-0.45 0.85,0.45 -0.85,0.45 -0.85,-0.45
Mechanical 15:
  lines w0.05: -1.397,-0.7 1.397,-0.7 1.397,0.7 -1.397,0.7 -1.397,-0.7
  lines w0.1: -0.45,0 0.45,0 ; 0,-0.45 0,0.45
3D body: height 0.55, standoff 0, extent 0.6,-0.45 0.85,0.45
3D body: height 0.55, standoff 0, extent -0.85,-0.45 -0.6,0.45
3D body: height 0.55, standoff 0, extent -0.6,-0.45 0.6,0.45

## S1751-46 TestPoint [mm]
pads (1):
  rect 3.45x1.85 smd: 1(0,0)

## SHT45 DFN [mm] "DFN, 4-Leads, Body 1.50x1.50mm, Pitch 0.80mm, IPC Medium Density"
height 0.8
pads (4):
  rect 0.6x0.35 smd: 1(-0.7,0.4) 2(-0.7,-0.4) 3(0.7,-0.4) 4(0.7,0.4)
Top Overlay:
  circle w0.1: c-1.2,0.8 r0.05
  lines w0.1: -0.85,-0.675 -0.85,-0.85 0.85,-0.85 0.85,-0.675 ; -0.85,-0.125 -0.85,0.125 ; -0.85,0.675 -0.85,0.85 0.85,0.85 0.85,0.675 ; 0.85,-0.125 0.85,0.125
Top Courtyard:
  lines w0.05: -1.05,-1.05 -1.05,1.05 1.05,1.05 1.05,-1.05 -1.05,-1.05
  lines w0.1: -0.5,0 0.5,0 ; 0,-0.5 0,0.5
Top Assembly:
  lines w0.1: -0.8,-0.8 -0.8,0.8 0.8,0.8 0.8,-0.8 -0.8,-0.8
3D body: height 0.8, standoff 0, extent -0.8,-0.8 0.8,0.8

## SolderBridge2_SMD_Rect_1.27x1.27 [mm]
pads (2):
  rect 1.27x1.27 smd paste-2539.97: 1(0,0) 2(0,-1.905)

## SOT65P210X110-5N_SC70 [mm] "SC70/SOT23, 5-Leads, Body 2.00x2.10mm, Pitch 0.65mm, IPC Medium Density"
height 1.1
pads (5):
  rect 0.85x0.4 smd: 1(-1.125,0.65) 2(-1.125,0) 3(-1.125,-0.65) 4(1.125,-0.65) 5(1.125,0.65)
Top Overlay:
  circle w0.25: c-1.125,1.4 r0.125
  lines w0.2: -0.3,-1.1 0.3,-1.1 0.3,1.1 -0.3,1.1 -0.3,-1.1
Top Courtyard:
  lines w0.05: -1.8,-1.35 -1.8,1.35 1.8,1.35 1.8,-1.35 -1.8,-1.35
  lines w0.1: -0.5,0 0.5,0 ; 0,-0.5 0,0.5
Top Assembly:
  lines w0.1: -0.7,-1.075 -0.7,1.075 0.7,1.075 0.7,-1.075 -0.7,-1.075
3D body: height 1.1, standoff 0, extent -0.7,-1.075 0.7,1.075

## TPS784XXXQDBVRQ1_SOT23 [mm] "SOT23, 5-Leads, Body 2,90x2,80mm, Pitch 0,95mm, IPC Medium Density"
height 1.45
pads (5):
  rect 1x0.6 smd: 1(-1.375,0.95) 2(-1.375,0) 3(-1.375,-0.95) 4(1.375,-0.95) 5(1.375,0.95)
Top Overlay:
  circle w0.25: c-1.375,1.8 r0.125
  lines w0.2: -0.725,-1.55 0.725,-1.55 0.725,1.55 -0.725,1.55 -0.725,-1.55
Top Courtyard:
  lines w0.05: -2.1,-1.8 -2.1,1.8 2.1,1.8 2.1,-1.8 -2.1,-1.8
  lines w0.1: -0.5,0 0.5,0 ; 0,-0.5 0,0.5
Mechanical 13:
  lines w0.1: -0.875,-1.525 -0.875,1.525 0.875,1.525 0.875,-1.525 -0.875,-1.525
3D body: height 1.45, standoff 0.05, extent -0.875,-1.525 0.875,1.525

## TPS784xxxQDRBRQ1_SON [mm] "SON127P600-8N"
height 1
pads (9):
  rect 0.9x0.35 smd: 1(-1.395,0.975) 2(-1.395,0.325) 3(-1.395,-0.325) 4(-1.395,-0.975) 5(1.395,-0.975) 6(1.395,-0.325) 7(1.395,0.325) 8(1.395,0.975)
  rect 1.49x2.4 smd: 9(0,0)
Top Overlay:
  circle w0.1: c-2.1,1.7 r0.05
  lines w0.2: -1.7,-1.55 -1.7,-1.7 -1.045,-1.7 ; -1.7,1.55 -1.7,1.7 -1.045,1.7 ; 1.045,-1.7 1.7,-1.7 1.7,-1.55 ; 1.045,1.7 1.7,1.7 1.7,1.55
Top Courtyard:
  lines w0.05: -2.105,-1.8 -2.105,1.8 2.105,1.8 2.105,-1.8 -2.105,-1.8
  lines w0.1: -0.5,0 0.5,0 ; 0,-0.5 0,0.5
Mechanical 13:
  circle w0.1: c-0.65,0.65 r0.5
  lines w0.1: -1.55,-1.55 -1.55,1.55 1.55,1.55 1.55,-1.55 -1.55,-1.55
3D body: height 1, standoff 0, extent -1.55,-1.55 1.55,1.55

## TSM-120-01-T-SH [mm]
pads (10):
  rect 1.27x3.18 smd: 1(0,0) 2(2.54,0) 3(5.08,0) 4(7.62,0) 5(10.16,0) 6(12.7,0) 7(15.24,0) 8(17.78,0) 9(20.32,0) 10(22.86,0)
Top Overlay:
  lines w0.254: -1.27,-1.27 -1.27,1.27 ; -1.27,4.284 ccw(c-1.016,4.284) -1.016,4.03 23.876,4.03 ccw(c23.876,4.284) 24.13,4.284 24.13,6.316 ccw(c23.876,6.316) 23.876,6.57 -1.016,6.57 ccw(c-1.016,6.316) -1.27,6.316 -1.27,4.284
Top Courtyard:
  lines w0.254: -2.54,-2.286 ccw(c-2.286,-2.286) -2.286,-2.54 25.146,-2.54 ccw(c25.146,-2.286) 25.4,-2.286 25.4,7.366 ccw(c25.146,7.366) 25.146,7.62 -2.286,7.62 ccw(c-2.286,7.366) -2.54,7.366 -2.54,-2.286